# Altium integrated library New Gyro 4.0.IntLib: 85 symbols
Pins are listed as number, name and electrical type; pins without a type are passive.

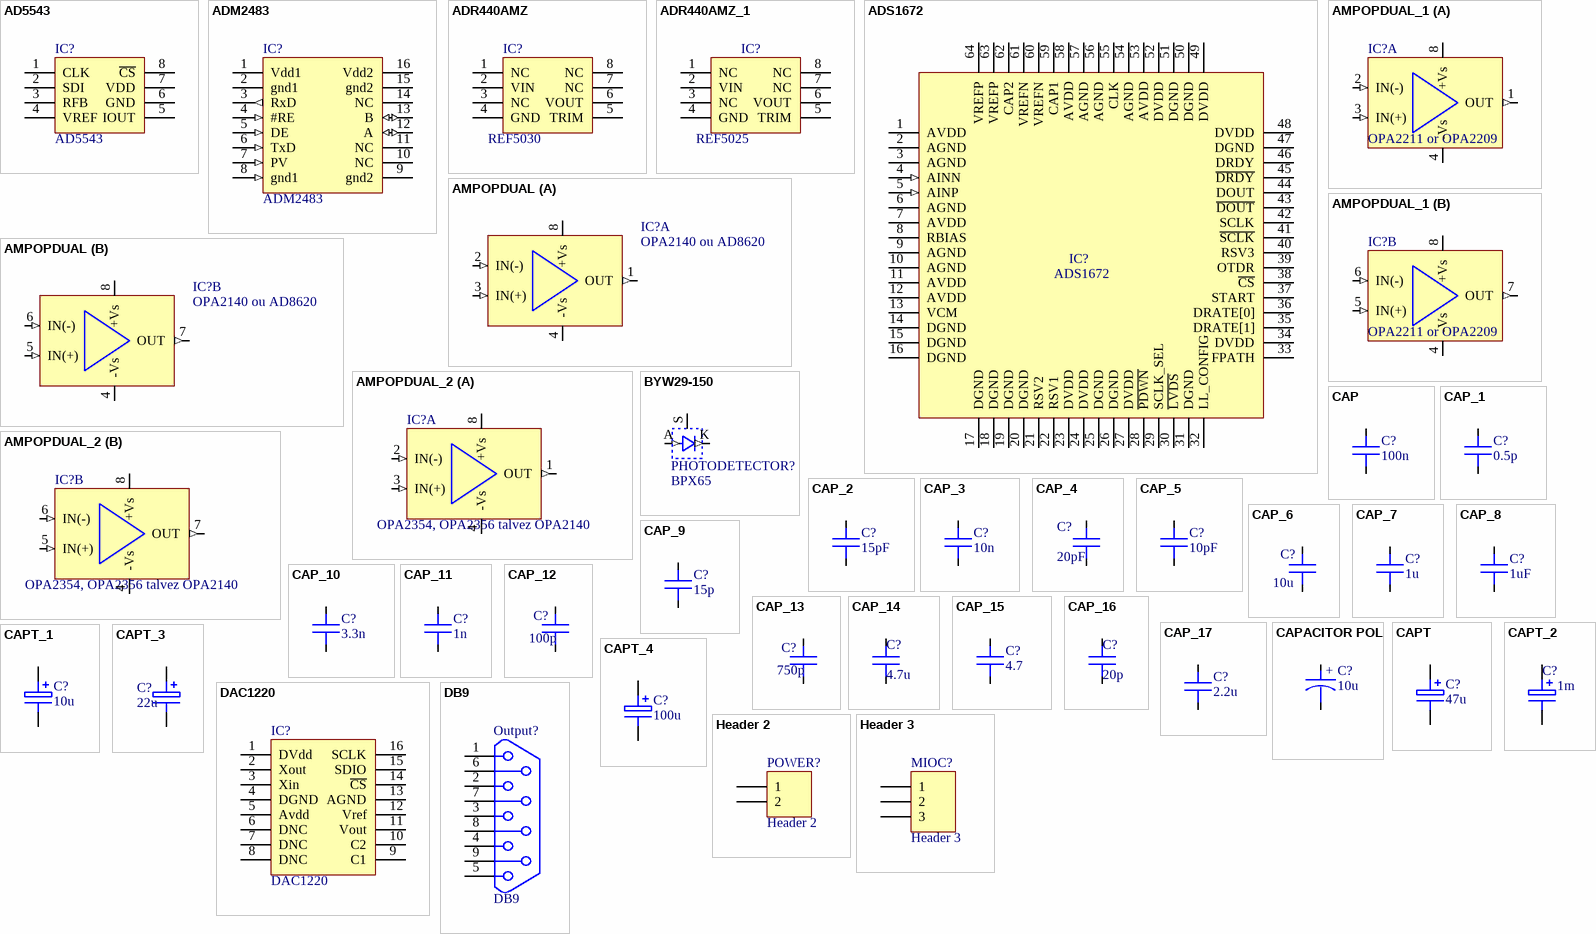
[diagram p0: symbols AD5543 to Header 3]

## AD5543
designator IC?
16 Bit SPI DAC
footprint MSOP8
pins: 1 CLK, 2 SDI, 3 RFB, 4 VREF, 5 IOUT, 6 GND, 7 VDD, 8 ~{CS}

## ADM2483
designator IC?
footprint SOL-16
pins: 1 Vdd1 (power), 2 gnd1 (power), 3 RxD (out), 4 #RE (in), 5 DE (in), 6 TxD (in), 7 PV (in), 8 gnd1 (in), 9 gnd2 (power), 10 NC (hiz), 11 NC (hiz), 12 A (io), 13 B (io), 14 NC (hiz), 15 gnd2 (power), 16 Vdd2 (power)

## ADR440AMZ
designator IC?, comment REF5030
footprint MSOP8
footprint SO-8
pins: 1 NC, 2 VIN, 3 NC, 4 GND, 5 TRIM, 6 VOUT, 7 NC, 8 NC

## ADR440AMZ_1
designator IC?, comment REF5025
footprint MSOP8
footprint SO-8
pins: 1 NC, 2 VIN, 3 NC, 4 GND, 5 TRIM, 6 VOUT, 7 NC, 8 NC

## ADS1672
designator IC?
625kSPS, 24-Bit Analog-to-Digital Converter
footprint TM4C123GH6PM_PQFP64 (PQFP64 - ARM M4F Texas Microcontroller)
pins: 1 AVDD (power), 2 AGND (power), 3 AGND (power), 4 AINN (in), 5 AINP (in), 6 AGND (power), 7 AVDD (power), 8 RBIAS (power), 9 AGND (power), 10 AGND (power), 11 AVDD (power), 12 AVDD (power), 13 VCM (power), 14 DGND (power), 15 DGND (power), 16 DGND (power), 17 DGND (power), 18 DGND (power), 19 DGND (power), 20 DGND (power), 21 RSV2 (power), 22 RSV1 (power), 23 DVDD (power), 24 DVDD (power), 25 DGND (power), 26 DGND (power), 27 DVDD (power), 28 ~{PDWN} (power), 29 SCLK_SEL (power), 30 ~{LVDS} (power), 31 DGND (power), 32 LL_CONFIG (power), 33 FPATH (power), 34 DVDD (power), 35 DRATE[1] (power), 36 DRATE[0] (power), 37 START (power), 38 ~{CS} (power), 39 OTDR (power), 40 RSV3 (power), 41 ~{SCLK} (power), 42 SCLK (power), 43 ~{DOUT} (power), 44 DOUT (power), 45 ~{DRDY} (power), 46 DRDY (power), 47 DGND (power), 48 DVDD (power), 49 DVDD (power), 50 DGND (power), 51 DGND (power), 52 DVDD (power), 53 AVDD (power), 54 AGND (power), 55 CLK (power), 56 AGND (power), 57 AGND (power), 58 AVDD (power), 59 CAP1 (power), 60 VREFN (power), 61 VREFN (power), 62 CAP2 (power), 63 VREFP (power), 64 VREFP (power)

## AMPOPDUAL
designator IC?, comment OPA2140 ou AD8620
footprint SO-8
footprint MSOP8
part A pins: 1 OUT (out), 2 IN(-) (in), 3 IN(+) (in), 4 -Vs (power), 8 +Vs (power)
part B pins: 4 -Vs (power), 5 IN(+) (in), 6 IN(-) (in), 7 OUT (out), 8 +Vs (power)

## AMPOPDUAL_1
designator IC?, comment OPA2211 or OPA2209
footprint SO-8
part A pins: 1 OUT (out), 2 IN(-) (in), 3 IN(+) (in), 4 -Vs (power), 8 +Vs (power)
part B pins: 4 -Vs (power), 5 IN(+) (in), 6 IN(-) (in), 7 OUT (out), 8 +Vs (power)

## AMPOPDUAL_2
designator IC?, comment OPA2354, OPA2356 talvez OPA2140
footprint MSOP8
part A pins: 1 OUT (out), 2 IN(-) (in), 3 IN(+) (in), 4 -Vs (power), 8 +Vs (power)
part B pins: 4 -Vs (power), 5 IN(+) (in), 6 IN(-) (in), 7 OUT (out), 8 +Vs (power)

## BYW29-150
designator PHOTODETECTOR?, comment BPX65
Text Field1: 10; Text Field2: 20
footprint TO220AC
footprint OTICO
footprint Model Name (Footprint not found)
footprint otico
pins: A (in), K (out), S

## CAP
designator C?, comment 100n
Capacitor Thick film
footprint 0805-cap
footprint 1206
footprint rad0.3
footprint rad0.4
footprint 0805-cap
pins: 1, 2

## CAP_1
designator C?, comment 0.5p
Capacitor Thick film
footprint 0805-cap
footprint 1206
footprint rad0.3
footprint rad0.4
footprint 0805-cap
pins: 1, 2

## CAP_2
designator C?, comment 15pF
Capacitor Thick film
footprint 0805-cap
footprint 1206
footprint rad0.3
footprint rad0.4
footprint 0805-cap
pins: 1, 2

## CAP_3
designator C?, comment 10n
Capacitor Thick film
footprint 0805-cap
footprint 1206
footprint rad0.3
footprint rad0.4
footprint 0805-cap
pins: 1, 2

## CAP_4
designator C?, comment 20pF
Capacitor Thick film
footprint 0805-cap
footprint 1206
footprint rad0.3
footprint rad0.4
footprint 0805-cap
pins: 1, 2

## CAP_5
designator C?, comment 10pF
Capacitor Thick film
footprint 0805-cap
footprint 1206
footprint rad0.3
footprint rad0.4
footprint 0805-cap
pins: 1, 2

## CAP_6
designator C?, comment 10u
Capacitor Thick film
footprint 0805-cap
footprint 1206
footprint rad0.3
footprint rad0.4
footprint 0805-cap
pins: 1, 2

## CAP_7
designator C?, comment 1u
Capacitor Thick film
footprint 0805-cap
footprint 1206
footprint rad0.3
footprint rad0.4
footprint 0805-cap
pins: 1, 2

## CAP_8
designator C?, comment 1uF
Capacitor Thick film
footprint 0805-cap
footprint 1206
footprint rad0.3
footprint rad0.4
footprint 0805-cap
pins: 1, 2

## CAP_9
designator C?, comment 15p
Capacitor Thick film
footprint 0805-cap
footprint 1206
footprint rad0.3
footprint rad0.4
footprint 0805-cap
pins: 1, 2

## CAP_10
designator C?, comment 3.3n
Capacitor Thick film
footprint 0805-cap
footprint 1206
footprint rad0.3
footprint rad0.4
footprint 0805-cap
pins: 1, 2

## CAP_11
designator C?, comment 1n
Capacitor Thick film
footprint 0805-cap
footprint 1206
footprint rad0.3
footprint rad0.4
footprint 0805-cap
pins: 1, 2

## CAP_12
designator C?, comment 100p
Capacitor Thick film
footprint 0805-cap
footprint 1206
footprint rad0.3
footprint rad0.4
footprint 0805-cap
pins: 1, 2

## CAP_13
designator C?, comment 750p
Capacitor Thick film
footprint 0805-cap
footprint 1206
footprint rad0.3
footprint rad0.4
footprint 0805-cap
pins: 1, 2

## CAP_14
designator C?, comment 4.7u
Capacitor Thick film
footprint 0805-cap
footprint 1206
footprint rad0.3
footprint rad0.4
footprint 0805-cap
pins: 1, 2

## CAP_15
designator C?, comment 4.7
Capacitor Thick film
footprint 0805-cap
footprint 1206
footprint rad0.3
footprint rad0.4
footprint 0805-cap
pins: 1, 2

## CAP_16
designator C?, comment 20p
Capacitor Thick film
footprint 0805-cap
footprint 1206
footprint rad0.3
footprint rad0.4
footprint 0805-cap
pins: 1, 2

## CAP_17
designator C?, comment 2.2u
Capacitor Thick film
footprint 0805-cap
footprint 1206
footprint rad0.3
footprint rad0.4
footprint 0805-cap
pins: 1, 2

## CAPACITOR POL
designator C?, comment 10u
Capacitor Tântalo
footprint CASE-C
footprint 1206_Capacitor
footprint 0805-cap
footprint 0805-cap
pins: 1, 2
text: +

## CAPT
designator C?, comment 47u
Capacitor Tântalo SMD
footprint CASE-A
footprint CASE-B
footprint CASE-C
footprint CASE-D
footprint 0805-cap
footprint 1206_Capacitor
footprint 1206_Capacitor
footprint 0805-cap
footprint 0805-cap
pins: 1 +, 2 -

## CAPT_1
designator C?, comment 10u
Capacitor Tântalo SMD
footprint CASE-A
footprint CASE-B
footprint CASE-C
footprint CASE-D
footprint 1206_Capacitor
footprint 1206_Capacitor
footprint 0805-cap
footprint 0805-cap
pins: 1 +, 2 -

## CAPT_2
designator C?, comment 1m
Capacitor Tântalo SMD
footprint CASE-A
footprint CASE-B
footprint CASE-C
footprint CASE-D
footprint 1206_Capacitor
footprint 0805-cap
footprint 0805-cap
footprint CAP 1000u - duplicate
pins: 1 +, 2 -

## CAPT_3
designator C?, comment 22u
Capacitor Tântalo SMD
footprint CASE-A
footprint CASE-B
footprint CASE-C
footprint CASE-D
footprint 1206_Capacitor
footprint 1206_Capacitor
footprint 0805-cap
pins: 1 +, 2 -

## CAPT_4
designator C?, comment 100u
Capacitor Tântalo SMD
footprint CASE-A
footprint CASE-B
footprint CASE-C
footprint CASE-D
footprint 1206_Capacitor
footprint 1206_Capacitor
footprint 0805-cap
footprint 0805-cap
pins: 1 +, 2 -

## DAC1220
designator IC?
footprint DBQ 16 TI
pins: 1 DVdd (power), 2 Xout (power), 3 Xin (power), 4 DGND (power), 5 Avdd (power), 6 DNC (power), 7 DNC (power), 8 DNC (power), 9 C1 (power), 10 C2 (hiz), 11 Vout (hiz), 12 Vref (power), 13 AGND (power), 14 ~{CS} (hiz), 15 SDIO (power), 16 SCLK (power)

## DB9
designator Output?
footprint DB-9/M
footprint DB9FLW
footprint DB9FLW
pins: 1, 2, 3, 4, 5, 6, 7, 8, 9

## Header 2
designator POWER?
Header, 2-Pin; LatestRevisionDate: 17-Jul-2002; LatestRevisionNote: Re-released for DXP Platform.; Publisher: Altium Limited
footprint HDR1X2 (Connector; Header; 2 Position)
signal-integrity model Connector
pins: 1, 2

## Header 3
designator MIOC?
Header, 3-Pin; LatestRevisionDate: 17-Jul-2002; LatestRevisionNote: Re-released for DXP Platform.; Publisher: Altium Limited
footprint HDR1X3 (Connector; Header; 3 Position)
signal-integrity model Connector
pins: 1, 2, 3

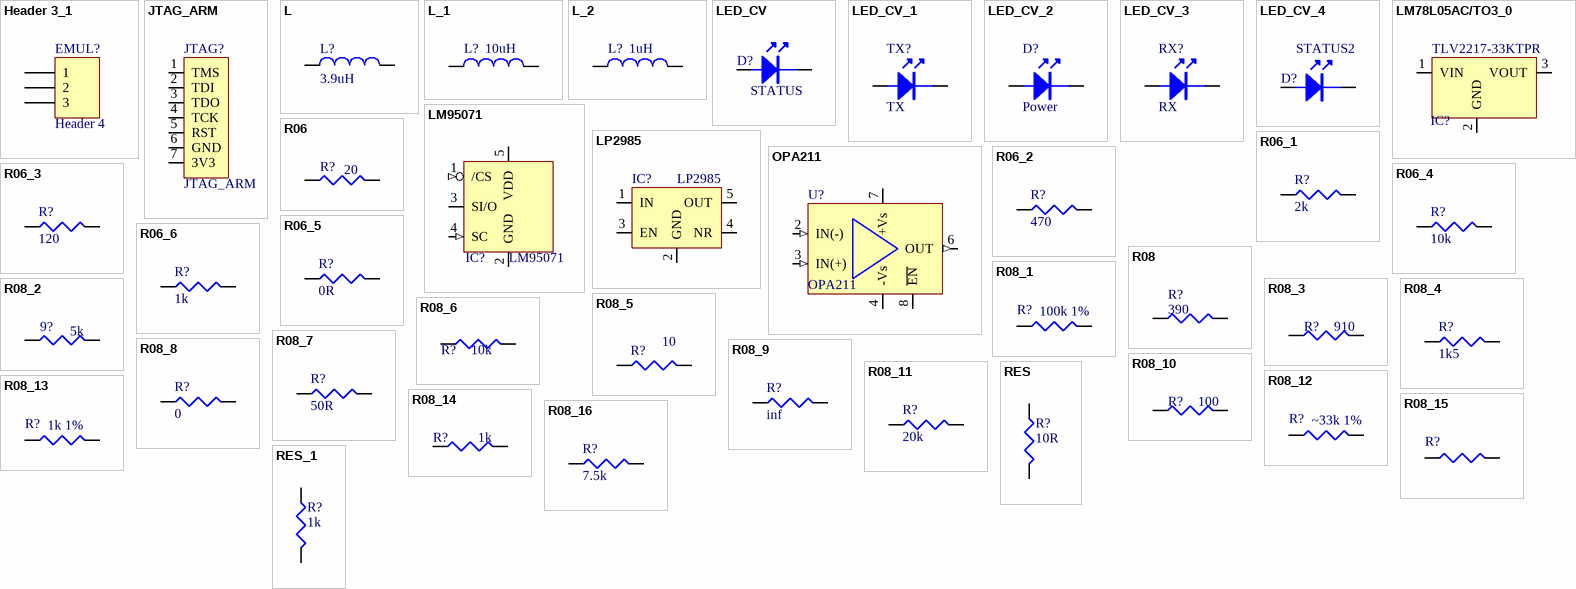
[diagram p1: symbols Header 3_1 to RES_1]

## Header 3_1
designator EMUL?, comment Header 4
Header, 3-Pin; LatestRevisionDate: 17-Jul-2002; LatestRevisionNote: Re-released for DXP Platform.; Publisher: Altium Limited
footprint HDR1X3 (Connector; Header; 3 Position)
signal-integrity model Connector
pins: 1, 2, 3

## JTAG_ARM
designator JTAG?
footprint HDR1X7 (Connector; Header; 6 Position)
pins: 1 TMS, 2 TDI, 3 TDO, 4 TCK, 5 RST, 6 GND, 7 3V3

## L
designator L?, comment 3.9uH
Text Field1: 40; Text Field2: 10
footprint L2012C
footprint 0805W
footprint 0805
pins: 1, 2

## L_1
designator L?, comment 10uH
Text Field1: 40; Text Field2: 10
footprint L2012C
footprint SPD62
pins: 1, 2

## L_2
designator L?, comment 1uH
Text Field1: 40; Text Field2: 10
footprint L2012C
footprint SPD62
footprint 0805
pins: 1, 2

## LED_CV
designator D?, comment STATUS
SMD LED 0805 package
footprint LED
footprint LED0805
pins: A a, K

## LED_CV_1
designator TX?, comment TX
SMD LED 0805 package
footprint LED
footprint LED0805
pins: A a, K

## LED_CV_2
designator D?, comment Power
SMD LED 0805 package
footprint LED
footprint LED0805
footprint LED
pins: A a, K

## LED_CV_3
designator RX?, comment RX
SMD LED 0805 package
footprint LED
footprint LED0805
footprint 0805
footprint LED
pins: A a, K

## LED_CV_4
designator D?, comment STATUS2
SMD LED 0805 package
footprint LED
footprint LED0805
pins: A a, K

## LM78L05AC/TO3_0
designator IC?, comment TLV2217-33KTPR
Text Field1: 70; Text Field2: 40
footprint KTP
pins: 1 VIN (power), 2 GND (power), 3 VOUT (power)

## LM95071
designator IC?
footprint SOT-23
footprint SOT23-6
footprint SOT-23
pins: 1 /CS (in), 2 GND (power), 3 SI/O (io), 4 SC (in), 5 VDD (power)

## LP2985
designator IC?
footprint SOT-23-5 (SOT23, 5-Leads, Body 2,90x2,80mm, Pitch 0,95mm, IPC Medium Density)
pins: 1 IN, 2 GND, 3 EN, 4 NR, 5 OUT

## OPA211
designator U?
footprint MSOP8
pins: 2 IN(-) (in), 3 IN(+) (in), 4 -Vs (power), 6 OUT (out), 7 +Vs (power), 8 ~{EN} (power)

## R06
designator R?, comment 20
Resistor Thick film 5%
footprint 1206
footprint 0805
footprint 0603
footprint axial0.3
footprint 0805W
pins: 1, 2

## R06_1
designator R?, comment 2k
Resistor Thick film 5%
footprint 1206
footprint 0805
footprint 0603
footprint axial0.3
footprint 0805W
pins: 1, 2

## R06_2
designator R?, comment 470
Resistor Thick film 5%
footprint 1206
footprint 0805
footprint 0603
footprint axial0.3
footprint 0805W
pins: 1, 2

## R06_3
designator R?, comment 120
Resistor Thick film 5%
footprint 1206
footprint 0805
footprint 0603
footprint axial0.3
footprint 0805W
pins: 1, 2

## R06_4
designator R?, comment 10k
Resistor Thick film 5%
footprint 1206
footprint 0805
footprint 0603
footprint axial0.3
footprint 0805W
pins: 1, 2

## R06_5
designator R?, comment 0R
Resistor Thick film 5%
footprint 1206
footprint 0805
footprint 0603
footprint axial0.3
footprint 0805W
pins: 1, 2

## R06_6
designator R?, comment 1k
Resistor Thick film 5%
footprint 1206
footprint 0805
footprint 0603
footprint axial0.3
footprint 0805W
pins: 1, 2

## R08
designator R?, comment 390
Resistor Thick film 1%
footprint 0805
footprint 1206
footprint 0603
footprint axial0.3
footprint 0805W
pins: 1, 2

## R08_1
designator R?, comment 100k 1%
Resistor Thick film 1%
footprint 0805
footprint 1206
footprint 0603
footprint axial0.3
footprint 0805W
pins: 1, 2

## R08_2
designator 9?, comment 5k
Resistor Thick film 1%
footprint 0805
footprint 1206
footprint 0603
footprint axial0.3
footprint 0805W
pins: 1, 2

## R08_3
designator R?, comment 910
Resistor Thick film 1%
footprint 0805
footprint 1206
footprint 0603
footprint axial0.3
footprint 0805W
pins: 1, 2

## R08_4
designator R?, comment 1k5
Resistor Thick film 1%
footprint 0805
footprint 1206
footprint 0603
footprint axial0.3
footprint 0805W
pins: 1, 2

## R08_5
designator R?, comment 10
Resistor Thick film 1%
footprint 0805
footprint 1206
footprint 0603
footprint axial0.3
footprint 0805W
pins: 1, 2

## R08_6
designator R?, comment 10k
Resistor Thick film 1%
footprint 0805
footprint 1206
footprint 0603
footprint axial0.3
footprint 0805W
pins: 1, 2

## R08_7
designator R?, comment 50R
Resistor Thick film 1%
footprint 0805
footprint 1206
footprint 0603
footprint axial0.3
footprint 0805W
pins: 1, 2

## R08_8
designator R?, comment 0
Resistor Thick film 1%
footprint 0805
footprint 1206
footprint 0603
footprint axial0.3
footprint 0805W
pins: 1, 2

## R08_9
designator R?, comment inf
Resistor Thick film 1%
footprint 0805
footprint 1206
footprint 0603
footprint axial0.3
footprint 0805W
pins: 1, 2

## R08_10
designator R?, comment 100
Resistor Thick film 1%
footprint 0805
footprint 1206
footprint 0603
footprint axial0.3
footprint 0805W
pins: 1, 2

## R08_11
designator R?, comment 20k
Resistor Thick film 1%
footprint 0805
footprint 1206
footprint 0603
footprint axial0.3
footprint 0805W
pins: 1, 2

## R08_12
designator R?, comment ~33k 1%
Resistor Thick film 1%
footprint 0805
footprint 1206
footprint 0603
footprint axial0.3
footprint 0805W
pins: 1, 2

## R08_13
designator R?, comment 1k 1%
Resistor Thick film 1%
footprint 0805
footprint 1206
footprint 0603
footprint axial0.3
footprint 0805W
pins: 1, 2

## R08_14
designator R?, comment 1k
Resistor Thick film 1%
footprint 0805
footprint 1206
footprint 0603
footprint axial0.3
footprint 0805W
pins: 1, 2

## R08_15
designator R?
Resistor Thick film 1%
footprint 0805
footprint 1206
footprint 0603
footprint axial0.3
footprint 0805W
pins: 1, 2

## R08_16
designator R?, comment 7.5k
Resistor Thick film 1%
footprint 0805
footprint 1206
footprint 0603
footprint axial0.3
footprint 0805W
pins: 1, 2

## RES
designator R?, comment 10R
Resistor; TC: *
footprint 0805W
footprint 0805
pins: 1, 2
1 alternate drawing of the same symbol

## RES_1
designator R?, comment 1k
Resistor; TC: *
footprint 0805W
footprint 0805
pins: 1, 2
1 alternate drawing of the same symbol

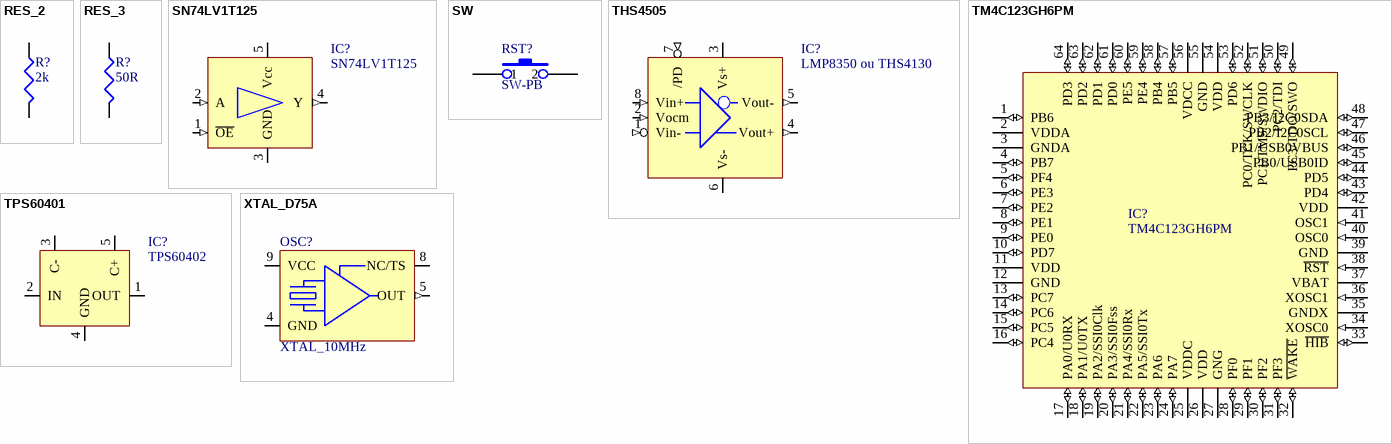
[diagram p2: symbols RES_2 to XTAL_D75A]

## RES_2
designator R?, comment 2k
Resistor; TC: *
footprint 0805W
footprint 0805
pins: 1, 2
1 alternate drawing of the same symbol

## RES_3
designator R?, comment 50R
Resistor; TC: *
footprint 0805W
footprint 0805
pins: 1, 2
1 alternate drawing of the same symbol

## SN74LV1T125
designator IC?
Single Power Supply Single Buffer Gate with 3-State Output CMOS Logic  Level Shifter
footprint SOT-23-5 (SOT23, 5-Leads, Body 2,90x2,80mm, Pitch 0,95mm, IPC Medium Density)
pins: 1 ~{OE} (in), 2 A (in), 3 GND (power), 4 Y (out), 5 Vcc (power)

## SW
designator RST?, comment SW-PB
footprint SW SMD (smal switch smd)
pins: 1, 2

## THS4505
designator IC?, comment LMP8350 ou THS4130
WIDEBAND, LOW-DISTORTION, FULLY DIFFERENTIAL AMPLIFIER
footprint SO-8
footprint MSOP8
pins: 1 Vin- (in), 2 Vocm (in), 3 Vs+ (power), 4 Vout+ (out), 5 Vout- (out), 6 Vs- (power), 7 /PD (in), 8 Vin+ (in)

## TM4C123GH6PM
designator IC?
ARM M4F Texas
footprint PQFP64
pins: 1 PB6 (io), 2 VDDA (power), 3 GNDA (power), 4 PB7 (io), 5 PF4 (io), 6 PE3 (io), 7 PE2 (io), 8 PE1 (io), 9 PE0 (io), 10 PD7 (io), 11 VDD (power), 12 GND (power), 13 PC7 (io), 14 PC6 (io), 15 PC5 (io), 16 PC4 (io), 17 PA0/U0RX (io), 18 PA1/U0TX (io), 19 PA2/SSI0Clk (io), 20 PA3/SSI0Fss (io), 21 PA4/SSI0Rx (io), 22 PA5/SSI0Tx (io), 23 PA6 (io), 24 PA7 (io), 25 VDDC (power), 26 VDD (power), 27 GNG (power), 28 PF0 (io), 29 PF1 (io), 30 PF2 (io), 31 PF3 (io), 32 ~{WAKE} (io), 33 ~{HIB} (io), 34 XOSC0 (in), 35 GNDX (power), 36 XOSC1 (in), 37 VBAT (power), 38 ~{RST} (in), 39 GND (power), 40 OSC0 (in), 41 OSC1 (in), 42 VDD (power), 43 PD4 (io), 44 PD5 (io), 45 PB0/USB0ID (io), 46 PB1/USB0VBUS (io), 47 PB2/I2C0SCL (io), 48 PB3/I2C0SDA (io), 49 PC3/TDO/SWO (io), 50 PC2/TDI (io), 51 PC1/TMS/SWDIO (io), 52 PC0/TCK/SWCLK (io), 53 PD6 (io), 54 VDD (power), 55 GND (power), 56 VDCC (power), 57 PB5 (io), 58 PB4 (io), 59 PE4 (io), 60 PE5 (io), 61 PD0 (io), 62 PD1 (io), 63 PD2 (io), 64 PD3 (io)

## TPS60401
designator IC?, comment TPS60402
Charge Pump Inverter
footprint SOT-23-5 (SOT23, 5-Leads, Body 2,90x2,80mm, Pitch 0,95mm, IPC Medium Density)
pins: 1 OUT, 2 IN, 3 C-, 4 GND, 5 C+

## XTAL_D75A
designator OSC?, comment XTAL_10MHz
footprint OSC_D75A_
pins: 4 GND (power), 5 OUT (out), 8 NC/TS, 9 VCC (power)